# EAGLE library part BC857BS (library Transistor)
TRANS 2PNP 45V 0.1A SOT363 Bipolar (BJT) Transistor Array 2 PNP (Dual) 45V 100mA 100MHz 200mW Surface Mount SOT-363 Datasheet <http://www.diodes.com/assets/Datasheets/ds30373.pdf>
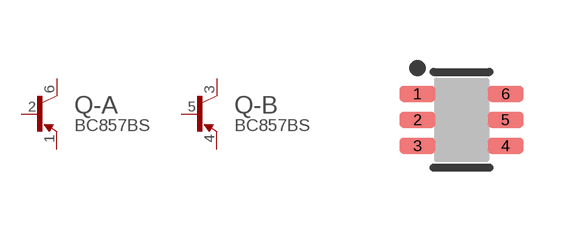
[diagram p0: symbol with the pads of SC-70-6; footprint SC-70-6]

Designator prefix Q; gates -A=PNP -B=PNP

## BC857BS-7-F (MFPN: BC857BS-7-F)  [SC-70-6]
1  -A:E  pas
2  -A:B  pas
3  -B:C  pas
4  -B:E  pas
5  -B:B  pas
6  -A:C  pas

## Footprint SC-70-6 (pad centres in mm)
SC-70-6 / SOT363 / TSSOP-6 6-Leads, Body 2.00x2.10mm, Pitch 0.65mm, IPC Medium Density Small Outline Transistor <http://en.wikipedia.org/wiki/Small-outline_transistor> 0.1mm Grid Changelog: 03/15/17: Added link to small outline transistor page. CN Changed tDocu shape to rectangle. 01/23/15: Rounded pads 50%. Update description. New tDocu. Shrink and adjust pads to IPC. CN 10/30/13: Changes to pads to tighten up area. Update tPlace for consistency. CN 04/16/13: Rotate package. Change tPlace and text for better look (mm grid). CN
smd 0.9 x 0.4: 1 -1.1,0.65; 2 -1.1,0; 3 -1.1,-0.65; 4 1.1,-0.65; 5 1.1,0; 6 1.1,0.65